# EAGLE library part TCAN1044*V-Q1 (library HyTechDevices)
TCAN1044*V Can Tranciever Datasheet <https://www.ti.com/lit/ds/symlink/tcan1044aev-q1.pdf?HQS=dis-mous-null-mousermode-dsf-pf-null-wwe&ts=1660058505207&ref_url=https%253A%252F%252Fwww.mouser.com%252F>
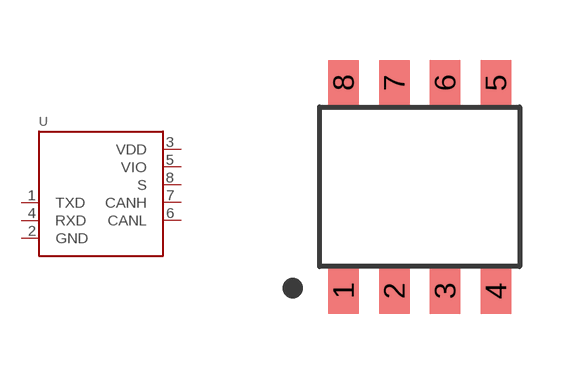
[diagram p51: symbol with the pads of SOIC-08(NARROW,0.15"); footprint SOIC-08(NARROW,0.15")]

Designator prefix U

## TCAN1044AEV-Q1 (DKPN: 296-TCAN1044AEVDRQ1TR-ND; MANUFACTURER: Texas Instruments; MOPN: 595-TCAN1044AEVDRQ1; MPN: TCAN1044AEVDRQ1)  [SOIC-08(NARROW,0.15")]
1  TXD  in
2  GND  pwr
3  VDD  pwr
4  RXD  out
5  VIO  pwr
6  CANL
7  CANH  out
8  S  in

## Footprint SOIC-08(NARROW,0.15") (pad centres in mm)
SOIC-8 Datasheet <https://www.analog.com/media/en/package-pcb-resources/package/pkg_pdf/ltc-legacy-soic/05081610_G_SO8.pdf>
smd 0.762 x 1.143: 1 -1.905,-2.603; 2 -0.635,-2.603; 3 0.635,-2.603; 4 1.905,-2.603; 5 1.905,2.603; 6 0.635,2.603; 7 -0.635,2.603; 8 -1.905,2.603